# Altium schematic symbol library Nixie-imp-sch-lib.SchLib: 21 symbols
Pins are listed as number, name and electrical type; pins without a type are passive.

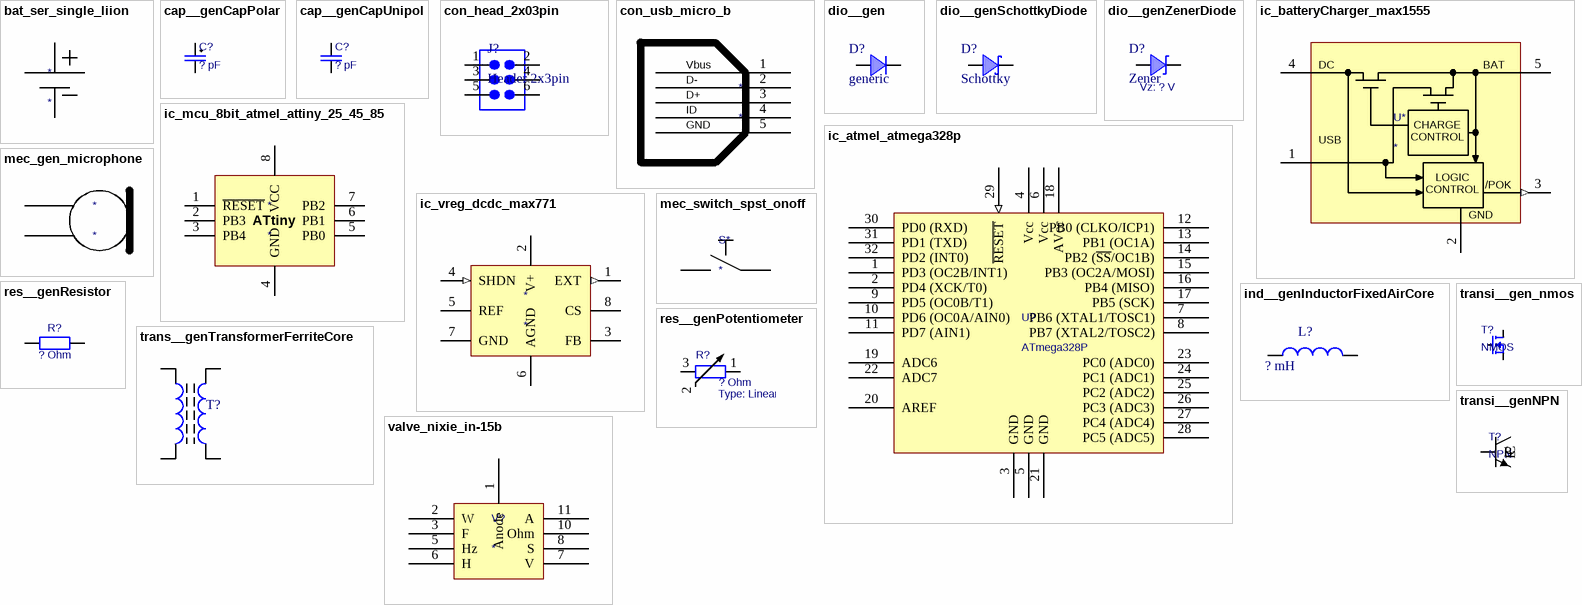
[diagram p0: symbols bat_ser_single_liion to valve_nixie_in-15b]

## bat_ser_single_liion
designator *
pins: 1 + "Positive terminal", 2 - "Negative terminal"

## cap__genCapPolar
designator C?, comment ? pF
Generic polarised capasitor; Voltage rating: ? V; Value: ? pF
pins: 1, 2

## cap__genCapUnipol
designator C?, comment ? pF
Generic unipolarised capasitor; Voltage rating: ? V; Value: ? pF
pins: 1, 2

## con_head_2x03pin
designator J?, comment Header 2x3pin
footprint header_2x3
pins: 1, 2, 3, 4, 5, 6

## con_usb_micro_b
designator *
pins: 1 Vbus, 2 D-, 3 D+, 4 ID "OTG ID distinguishes cable ends", 5 GND

## dio__gen
designator D?, comment generic
Generic Diode; Model: generic
pins: 1 A, 2 C

## dio__genSchottkyDiode
designator D?, comment Schottky
Generic Schottky Diode
pins: 1 A, 2 C

## dio__genZenerDiode
designator D?, comment Zener  Vz: ? V
Generic Zener Diode
pins: 1 A, 2 C

## ic_atmel_atmega328p
designator U?, comment ATmega328P
Atmel 8 bit microcontroller; Supply voltage: *; Clock frequency: *
footprint ic_atmel_atmega328p (TQFP, 32-Leads, Body 7,00x7,00mm, Pitch 0,80mm, IPC Medium Density)
pins: 1 PD3 (OC2B/INT1), 2 PD4 (XCK/T0), 3 GND (power), 4 Vcc (power), 5 GND (power), 6 Vcc (power), 7 PB6 (XTAL1/TOSC1), 8 PB7 (XTAL2/TOSC2), 9 PD5 (OC0B/T1), 10 PD6 (OC0A/AIN0), 11 PD7 (AIN1), 12 PB0 (CLKO/ICP1), 13 PB1 (OC1A), 14 PB2 (~{SS}/OC1B), 15 PB3 (OC2A/MOSI), 16 PB4 (MISO), 17 PB5 (SCK), 18 AVcc (power), 19 ADC6, 20 AREF, 21 GND (power), 22 ADC7, 23 PC0 (ADC0), 24 PC1 (ADC1), 25 PC2 (ADC2), 26 PC3 (ADC3), 27 PC4 (ADC4), 28 PC5 (ADC5), 29 ~{RESET} (in), 30 PD0 (RXD), 31 PD1 (TXD), 32 PD2 (INT0)

## ic_batteryCharger_max1555
designator U*
MAX1551/1555 Li-Ion battery charger IC
pins: 1 USB (power), 2 GND, 3 ~{PO}K ~{(CH}G) (out), 4 DC (power), 5 BAT (power)
text: CHARGE / CONTROL; /POK; LOGIC / CONTROL

## ic_mcu_8bit_atmel_attiny_25_45_85
designator *
pins: 1 ~{RESET}, 2 PB3, 3 PB4, 4 GND, 5 PB0, 6 PB1, 7 PB2, 8 VCC
text: ATtiny

## ic_vreg_dcdc_max771
designator *
pins: 1 EXT (out) "Gate drive for external N-channel power transistor", 2 V+ (power) "Power-supply input. Bypass to SGND with 0.1uF when using the shunt regulator.", 3 FB "Feedback input for adjustable-output operation. Connect to ground for fixed-output operation. Use a resistor divider network to adjust the output voltage.", 4 SHDN (in) "Active-high TTL/CMOS logic-level shutdown input.", 5 REF "1.5V reference output that can source 100uA for external loads. Bypass to GND with 0.1uF.", 6 AGND (power) "Analog ground", 7 GND (power) "High-current ground return for the output driver.", 8 CS "Positive input to the current-sense amplifier. Connect the current-sense resistor between CS and GND."

## ind__genInductorFixedAirCore
designator L?, comment ? mH
Generic inductor with air gap; Value: ? mH
footprint ELLATV (Inductor10uH)
pins: 1, 2

## mec_gen_microphone
designator *
pins: Negative output 2, Positive output 1

## mec_switch_spst_onoff
designator S*
Single pole, single throw, on off switch; Current rating: *; Voltage rating: *; Watt rating: *
pins: 1, 2

## res__genPotentiometer
designator R?, comment Type: Linear  (hidden comment: ? Ohm)
Generic Potentiometer; Watt rating: ? mW; Value: ? Ohm
pins: 1, 2, 3
1 alternate drawing of the same symbol

## res__genResistor
designator R?, comment ? Ohm
Generic resistor; Watt rating: ? mW; Value: ? Ohm
pins: 1, 2
1 alternate drawing of the same symbol

## trans__genTransformerFerriteCore
designator T?
Generic transformer with ferrite core; Self inductance: ? mH; Turns ratio: *
pins: 1, 2, 4, 9 3

## transi__gen_nmos
designator T?, comment NMOS
Generic N-channel Enhancement MOS Transistor; Technology: NMOS
pins: D "Drain", G "Gate", S "Source"

## transi__genNPN
designator T?, comment NPN
Generic NPN Transistor; Std: IEEE Std 315-1975
pins: B, C, E

## valve_nixie_in-15b
designator V?
IN-15b Nixie tube; Working voltage: 140 V; Ignite voltage: 170 V; Forward current: 3 mA
pins: 1 Anode (power), 2 W, 3 F, 5 Hz, 6 H, 7 V, 8 S, 10 Ohm, 11 A